# EAGLE library part SN75189AJ (library User-Submitted)
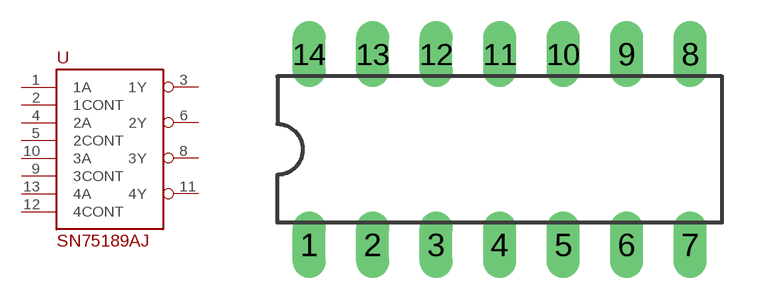
[diagram p35: symbol with the pads of DIL14; footprint DIL14]

Designator prefix -

## SN75189AJ  [DIL14]
1  1A  in
2  1CONT  in
3  1Y  out
4  2A  in
5  2CONT  in
6  2Y  out
8  3Y  out
9  3CONT  in
10  3A  in
11  4Y  out
12  4CONT  in
13  4A  in

## Footprint DIL14 (pad centres in mm)
Dual In Line Package
drill 0.813 long: 1 -7.62,-3.81; 2 -5.08,-3.81; 3 -2.54,-3.81; 4 0,-3.81; 5 2.54,-3.81; 6 5.08,-3.81; 7 7.62,-3.81; 8 7.62,3.81; 9 5.08,3.81; 10 2.54,3.81; 11 0,3.81; 12 -2.54,3.81; 13 -5.08,3.81; 14 -7.62,3.81